# EAGLE library part DRV2605L (library Agent-DA7280-FeatherWing)
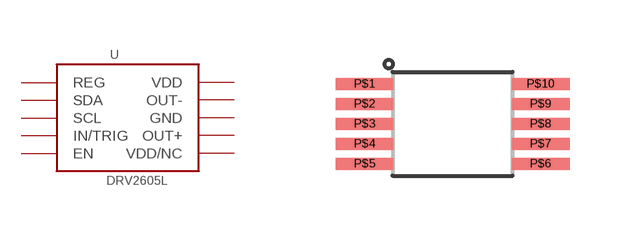
[diagram p2: symbol with the pads of VSSOP-10; footprint VSSOP-10]

Designator prefix -

## DRV2605L (PROD_ID: IC-13504)  [VSSOP-10]
P$1  REG
P$2  SCL
P$3  SDA
P$4  IN/TRIG
P$5  EN
P$6  VDD/NC
P$7  OUT+
P$8  GND
P$9  OUT-
P$10  VDD

## Footprint VSSOP-10 (pad centres in mm)
smd 1.45 x 0.3: P$1 -1.905,1.06; P$2 -1.905,0.56; P$3 -1.905,0.06; P$4 -1.905,-0.44; P$5 -1.905,-0.94; P$6 2.495,-0.94; P$7 2.495,-0.44; P$8 2.495,0.06; P$9 2.495,0.56; P$10 2.495,1.06